# EAGLE library part RJHSE-*381-02_CAN (library lib_ysk)
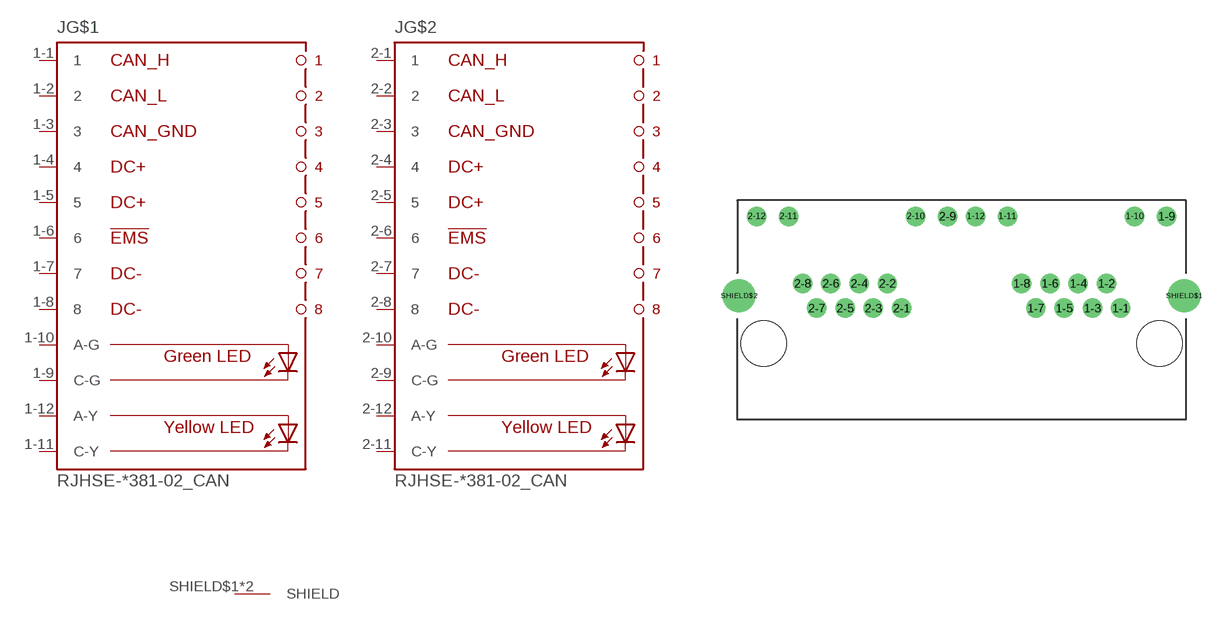
[diagram p8: symbol with the pads of RJHSE-X38X-02; footprint RJHSE-X38X-02]

Designator prefix J; gates G$1=8P8C-LED G$2=8P8C-LED G$3=SHIELD

## RJHSE-381-02_CAN  [RJHSE-X38X-02]
1-1  G$1:1  in
1-2  G$1:2  in
1-3  G$1:3  in
1-4  G$1:4  in
1-5  G$1:5  in
1-6  G$1:6  in
1-7  G$1:7  in
1-8  G$1:8  in
1-9  G$1:C-G  pas
1-10  G$1:A-G  pas
1-11  G$1:C-Y  pas
1-12  G$1:A-Y  pas
2-1  G$2:1  in
2-2  G$2:2  in
2-3  G$2:3  in
2-4  G$2:4  in
2-5  G$2:5  in
2-6  G$2:6  in
2-7  G$2:7  in
2-8  G$2:8  in
2-9  G$2:C-G  pas
2-10  G$2:A-G  pas
2-11  G$2:C-Y  pas
2-12  G$2:A-Y  pas
SHIELD$1  G$3:SHIELD  pas
SHIELD$2  G$3:SHIELD  pas

## Footprint RJHSE-X38X-02 (pad centres in mm)
RJHSE-X38X-02 connector from Amphenol RJ45 Jack, 8P8C, 2 Ports, PCB mounted, Right-angle Source: RJHSE-X38X-02 datasheet <https://cdn.amphenol-icc.com/media/wysiwyg/files/drawing/rjhsex38x02.pdf?__cf_chl_jschl_tk__=3e721830c756b22fe20998c7c9eb13907a512808-1583042642-0-AUzRrenb8OIfkc0WdZq2dduM3D3gyc4GSXqqwQjq9oT5TZB247YkZyVUvqv8qaAZa0vt6W1KbF464DwJnVs2oTb5dyQ2W0Lz0_QYXvOULjuDoGVkb4h9_F1eZ8Chf2WF5YudVLCa9cAGBLPLFt09LFso7dm9e45INCz26qIIrETXKLuOIJ2NwzlG6265dYIUlLhiXfl9PtmOWQ68uz4vN4jywwDzeHAe_yXLKYVaYWY-2zVlCwG-22NxjhMHHJg53j3EyO6I_8K6o_7sWKe8yxUPvSdO6yf2_IexyyeWIeEMdZu1nXiZ7800r_6KYdrITuva-wnmzn8BwYlVPwkfZYhvq6QZ0qYyogWoX-2g3IFhdTkjI0ckJhuRqTQBSArfktnEJdkCH75sEHdpTRuV2u8>
drill 0.889: 1-1 11.43,2.54; 1-2 10.414,4.318; 1-3 9.398,2.54; 1-4 8.382,4.318; 1-5 7.366,2.54; 1-6 6.35,4.318; 1-7 5.334,2.54; 1-8 4.318,4.318; 1-9 14.732,9.144; 1-10 12.446,9.144; 1-11 3.302,9.144; 1-12 1.016,9.144; 2-1 -4.318,2.54; 2-2 -5.334,4.318; 2-3 -6.35,2.54; 2-4 -7.366,4.318; 2-5 -8.382,2.54; 2-6 -9.398,4.318; 2-7 -10.414,2.54; 2-8 -11.43,4.318; 2-9 -1.016,9.144; 2-10 -3.302,9.144; 2-11 -12.446,9.144; 2-12 -14.732,9.144
drill 1.575: SHIELD$1 16.002,3.429; SHIELD$2 -16.002,3.429
hole 3.251 at 14.224,0
hole 3.251 at -14.224,0